# Altium footprint library PCB - OPTOISOLATOR - ON SEMICONDUCTOR H11L1SR2M.PcbLib: 1 footprints
Each footprint in its own frame and in the unit in brackets; x right, y up, seen from the top. Pads: shape width x height; smd on the part's side, far side on the other; paste and mask are expansions set on the pad; w line width, h text height; cw(c..) or ccw(c..) is an arc to the next point about the centre after c.
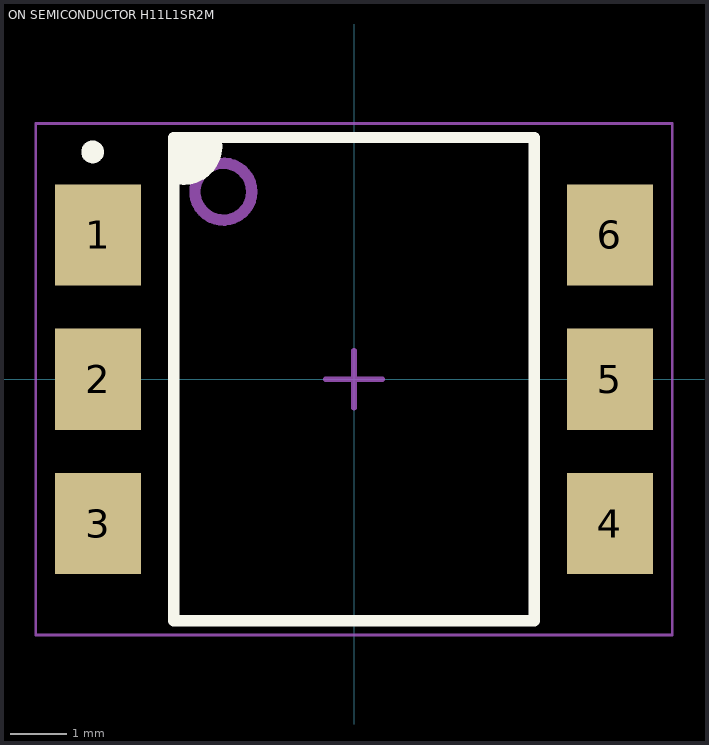
[diagram p0: the footprint, top view; thin cyan lines are the x and y axes]

## ON SEMICONDUCTOR H11L1SR2M [mm] "Logic Output Optoisolator 1MHz Open Collector 5000Vrms 1 Channel  CMTI, 2.54mm Pitch, 6.35x8.51mm Body, 6-SMD Package"
height 4.8
pads (6):
  rect 1.52x1.78 smd: 1(-4.505,2.54) 2(-4.505,0) 3(-4.505,-2.54) 4(4.505,-2.54) 5(4.505,0) 6(4.505,2.54)
Top Overlay:
  circle w0.2: c-4.6,4 r0.1
  region: -3.175,4.253 -3.175,3.604 -3.175,3.588 -3.163,3.559 -3.141,3.537 -3.112,3.525 -3.096,3.525 -3.08,3.525 -3.016,3.525 -2.889,3.55 -2.769,3.6 -2.661,3.672 -2.57,3.763 -2.498,3.871 -2.448,3.991 -2.423,4.118 -2.423,4.182
  lines w0.2: -3.096,3.525 ccw(c-3,4.1) -2.423,4.182 ; -3.175,-4.253 -0.693,-4.253 3.175,-4.253 3.175,4.253 0.693,4.253 -3.175,4.253 -3.175,-4.253
Mechanical 13:
  circle w0.2: c-2.3,3.3 r0.5
  lines w0.1: -3.175,-4.253 -3.175,4.253 3.175,4.253 3.175,-4.253 -3.175,-4.253
Mechanical 15 (Mech15):
  lines w0.05: -5.6,-4.5 -5.6,4.5 5.6,4.5 5.6,-4.5 -5.6,-4.5
  lines w0.1: -0.5,0 0,0 ; 0,-0.5 0,0 ; 0,0.5 0,0 ; 0.5,0 0,0
3D body "ON Semiconductor - SMD-6 v3.step": height 4.8, standoff 0, extent -4.585,-4.253 4.585,4.253